# Altium schematic symbol library Crystal.SchLib: 17 symbols
Pins are listed as number, name and electrical type; pins without a type are passive.

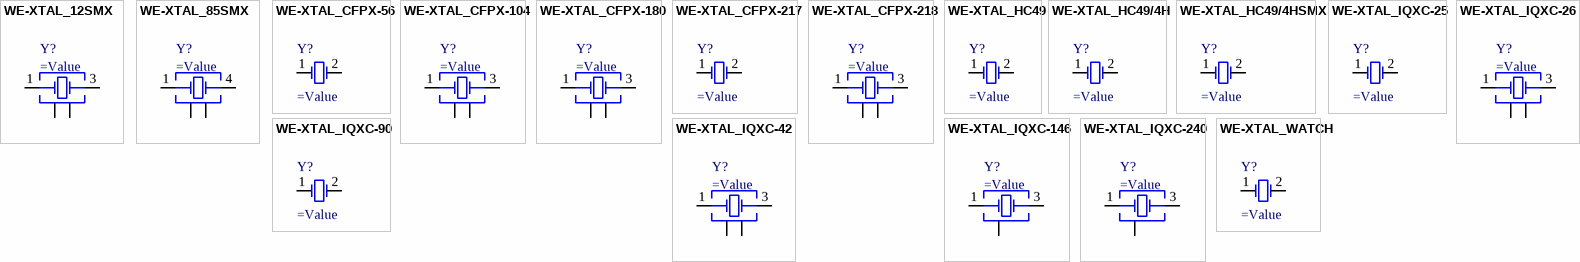
[diagram p0: symbols WE-XTAL_12SMX to WE-XTAL_WATCH]

## WE-XTAL_12SMX
designator Y?
pins: 1 Crystal, 2 GND, 3 Crystal, 4 GND

## WE-XTAL_85SMX
designator Y?
pins: 1 Crystal, 2 GND, 3 GND, 4 Crystal

## WE-XTAL_CFPX-56
designator Y?
pins: 1 OSC1, 2 OSC2

## WE-XTAL_CFPX-104
designator Y?
pins: 1 Crystal, 2 GND & Lid, 3 Crystal, 4 GND & Lid

## WE-XTAL_CFPX-180
designator Y?
pins: 1 Crystal, 2 GND&Lid, 3 Crystal, 4 GND&Lid

## WE-XTAL_CFPX-217
designator Y?
pins: 1 OSC1, 2 OSC2

## WE-XTAL_CFPX-218
designator Y?
pins: 1 Crystal, 2 GND, 3 Crystal, 4 GND

## WE-XTAL_HC49
designator Y?
pins: 1 OSC1, 2 OSC2

## WE-XTAL_HC49/4H
designator Y?
pins: 1 OSC1, 2 OSC2

## WE-XTAL_HC49/4HSMX
designator Y?
pins: 1 OSC1, 2 OSC2

## WE-XTAL_IQXC-25
designator Y?
pins: 1 OSC1, 2 OSC2

## WE-XTAL_IQXC-26
designator Y?
pins: 1 Crystal, 2 GND & Lid, 3 Crystal, 4 GND & Lid

## WE-XTAL_IQXC-42
designator Y?
pins: 1 Crystal, 2 GND, 3 Crystal, 4 GND

## WE-XTAL_IQXC-90
designator Y?
pins: 1 OSC1, 2 OSC2

## WE-XTAL_IQXC-146
designator Y?
pins: 1 Crystal, 2 GND, 3 Crystal

## WE-XTAL_IQXC-240
designator Y?
pins: 1 Crystal, 2 GND, 3 Crystal

## WE-XTAL_WATCH
designator Y?
pins: 1 OSC1, 2 OSC2